# EAGLE library part ELIAS-1X10 (library con-molex)
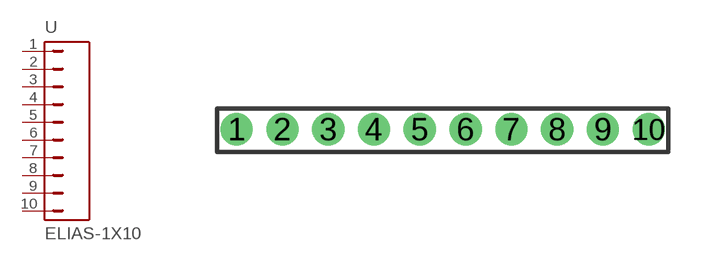
[diagram p1: symbol with the pads of ELIAS-2MM; footprint ELIAS-2MM]

Designator prefix -

## ELIAS-1X10THROUGH-HOLE  [ELIAS-2MM]
1  1  pas
2  2  pas
3  3  pas
4  4  pas
5  5  pas
6  6  pas
7  7  pas
8  8  pas
9  9  pas
10  10  pas

## Footprint ELIAS-2MM (pad centres in mm)
drill 0.9 pad 1.27 round: 1 -9,0; 2 -7,0; 3 -5,0; 4 -3,0; 5 -1,0; 6 1,0; 7 3,0; 8 5,0; 9 7,0; 10 9,0